# Altium integrated library Ferrite Chip.IntLib: 462 symbols (part 5 of 7)
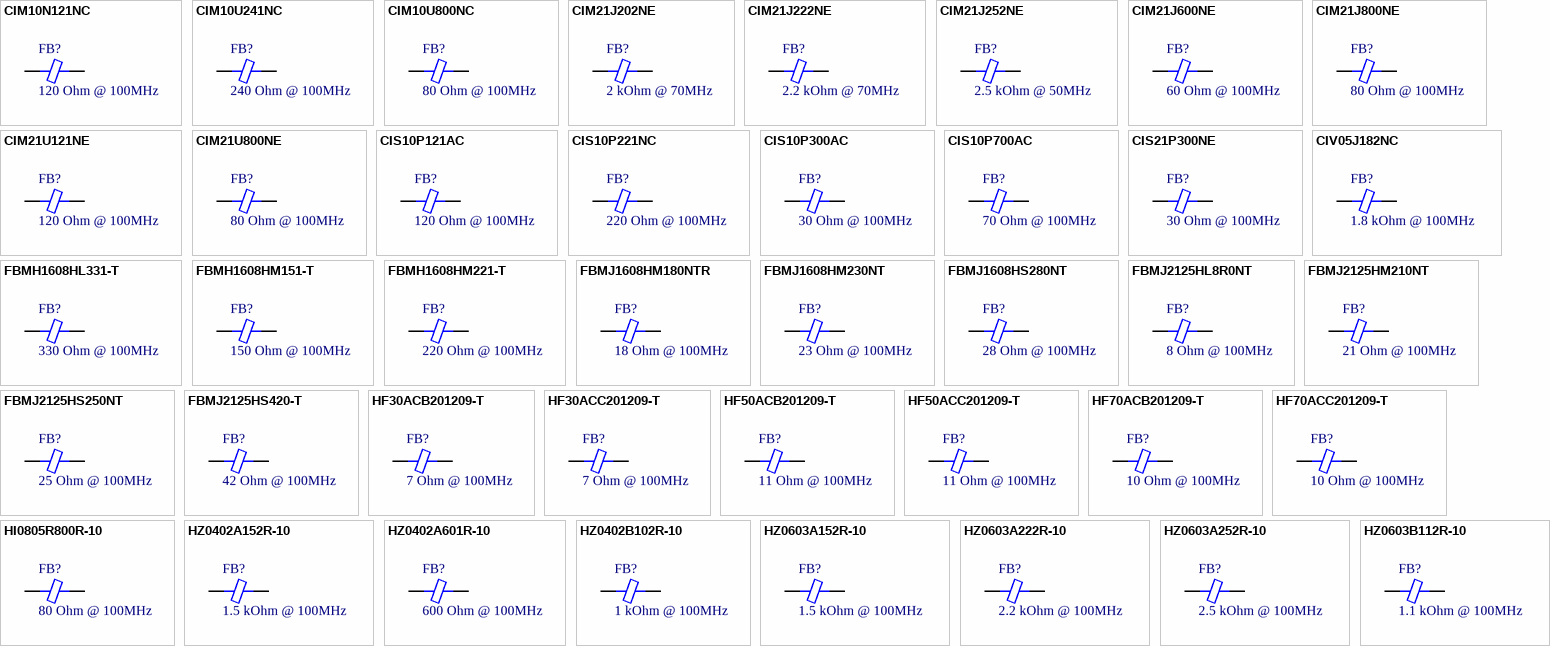
[diagram p15: symbols CIM10N121NC to HZ0603B112R-10]

## CIM10N121NC
designator FB?, comment 120 Ohm @ 100MHz
FERRITE CHIP 120 OHM 400MA 0603; Part Number: CIM10N121NC; Manufacturer: Samsung Electro-Mechanics America, Inc.; Type: Differential Mode - Single; DC Resistance: 450 mOhm Max; PartId: 6668; Value: 120 Ohm @ 100MHz; Supplier 1: Digi-Key; Supplier Part Number 1: 1276-6324-2-ND; ComponentLink1Description: Datasheet; ComponentLink1URL: http://www.samsungsem.com/kr/front/downloadcms.do?path=/kr/support/product-search/bead/__icsFiles/afieldfile/2014/11/13&fileName=S_CIM10F121NC.pdf; ComponentLink2Description: Digi-Key listing; ComponentLink2URL: http://digikey.com/product-detail/en/CIM10N121NC/1276-6324-2-ND/3973914; Price: 0.031; Device Package: 0603 (1608 Metric); Current Rating: 400mA
footprint FER 0603/1608
pins: 1, 2

## CIM10U241NC
designator FB?, comment 240 Ohm @ 100MHz
FERRITE CHIP 240 OHM 400MA 0603; Part Number: CIM10U241NC; Manufacturer: Samsung Electro-Mechanics America, Inc.; Type: Differential Mode - Single; DC Resistance: 250 mOhm Max; PartId: 6598; Value: 240 Ohm @ 100MHz; Supplier 1: Digi-Key; Supplier Part Number 1: 1276-6385-2-ND; ComponentLink1Description: Datasheet; ComponentLink1URL: http://www.samsungsem.com/kr/front/downloadcms.do?path=/kr/support/product-search/bead/__icsFiles/afieldfile/2014/11/13&fileName=S_CIM10F121NC.pdf; ComponentLink2Description: Digi-Key listing; ComponentLink2URL: http://digikey.com/product-detail/en/CIM10U241NC/1276-6385-2-ND/3973762; Price: 0.0248; Device Package: 0603 (1608 Metric); Current Rating: 400mA
footprint FER 0603/1608
pins: 1, 2

## CIM10U800NC
designator FB?, comment 80 Ohm @ 100MHz
FERRITE CHIP 80 OHM 600MA 0603; Part Number: CIM10U800NC; Manufacturer: Samsung Electro-Mechanics America, Inc.; Type: Differential Mode - Single; DC Resistance: 100 mOhm Max; PartId: 6584; Value: 80 Ohm @ 100MHz; Supplier 1: Digi-Key; Supplier Part Number 1: 1276-6386-2-ND; ComponentLink1Description: Datasheet; ComponentLink1URL: http://www.samsungsem.com/kr/front/downloadcms.do?path=/kr/support/product-search/bead/__icsFiles/afieldfile/2014/11/13&fileName=S_CIM10F121NC.pdf; ComponentLink2Description: Digi-Key listing; ComponentLink2URL: http://digikey.com/product-detail/en/CIM10U800NC/1276-6386-2-ND/3973761; Price: 0.0215; Device Package: 0603 (1608 Metric); Current Rating: 600mA
footprint FER 0603/1608
pins: 1, 2

## CIM21J202NE
designator FB?, comment 2 kOhm @ 70MHz
FERRITE CHIP 2000 OHM 500MA 0805; Part Number: CIM21J202NE; Manufacturer: Samsung Electro-Mechanics America, Inc.; Type: Differential Mode - Single; DC Resistance: 500 mOhm Max; PartId: 6754; Value: 2 kOhm @ 70MHz; Supplier 1: Digi-Key; Supplier Part Number 1: 1276-6330-2-ND; ComponentLink1Description: Datasheet; ComponentLink1URL: http://www.samsungsem.com/kr/front/downloadcms.do?path=/kr/support/product-search/bead/__icsFiles/afieldfile/2014/11/13&fileName=S_CIB21P110NE.pdf; ComponentLink2Description: Digi-Key listing; ComponentLink2URL: http://digikey.com/product-detail/en/CIM21J202NE/1276-6330-2-ND/3973930; Price: 0.013; Device Package: 0805 (2012 Metric); Current Rating: 500mA
footprint FER 0805/2012
pins: 1, 2

## CIM21J222NE
designator FB?, comment 2.2 kOhm @ 70MHz
FERRITE CHIP 2200 OHM 300MA 0805; Part Number: CIM21J222NE; Manufacturer: Samsung Electro-Mechanics America, Inc.; Type: Differential Mode - Single; DC Resistance: 700 mOhm Max; PartId: 6763; Value: 2.2 kOhm @ 70MHz; Supplier 1: Digi-Key; Supplier Part Number 1: 1276-6329-2-ND; ComponentLink1Description: Datasheet; ComponentLink1URL: http://www.samsungsem.com/kr/front/downloadcms.do?path=/kr/support/product-search/bead/__icsFiles/afieldfile/2014/11/13&fileName=S_CIB21P110NE.pdf; ComponentLink2Description: Digi-Key listing; ComponentLink2URL: http://digikey.com/product-detail/en/CIM21J222NE/1276-6329-2-ND/3973931; Price: 0.0168; Device Package: 0805 (2012 Metric); Current Rating: 300mA
footprint FER 0805/2012
pins: 1, 2

## CIM21J252NE
designator FB?, comment 2.5 kOhm @ 50MHz
FERRITE CHIP 2500 OHM 300MA 0805; Part Number: CIM21J252NE; Manufacturer: Samsung Electro-Mechanics America, Inc.; Type: Differential Mode - Single; DC Resistance: 700 mOhm Max; PartId: 6758; Value: 2.5 kOhm @ 50MHz; Supplier 1: Digi-Key; Supplier Part Number 1: 1276-6377-2-ND; ComponentLink1Description: Datasheet; ComponentLink1URL: http://www.samsungsem.com/kr/front/downloadcms.do?path=/kr/support/product-search/bead/__icsFiles/afieldfile/2014/11/13&fileName=S_CIB21P110NE.pdf; ComponentLink2Description: Digi-Key listing; ComponentLink2URL: http://digikey.com/product-detail/en/CIM21J252NE/1276-6377-2-ND/3973785; Price: 0.0158; Device Package: 0805 (2012 Metric); Current Rating: 300mA
footprint FER 0805/2012
pins: 1, 2

## CIM21J600NE
designator FB?, comment 60 Ohm @ 100MHz
FERRITE CHIP 60 OHM 900MA 0805; Part Number: CIM21J600NE; Manufacturer: Samsung Electro-Mechanics America, Inc.; Type: Differential Mode - Single; DC Resistance: 80 mOhm Max; PartId: 6768; Value: 60 Ohm @ 100MHz; Supplier 1: Digi-Key; Supplier Part Number 1: 1276-6339-2-ND; ComponentLink1Description: Datasheet; ComponentLink1URL: http://www.samsungsem.com/kr/front/downloadcms.do?path=/kr/support/product-search/bead/__icsFiles/afieldfile/2014/11/13&fileName=S_CIB21P110NE.pdf; ComponentLink2Description: Digi-Key listing; ComponentLink2URL: http://digikey.com/product-detail/en/CIM21J600NE/1276-6339-2-ND/3973925; Price: 0.0187; Device Package: 0805 (2012 Metric); Current Rating: 900mA
footprint FER 0805/2012
pins: 1, 2

## CIM21J800NE
designator FB?, comment 80 Ohm @ 100MHz
FERRITE CHIP 80 OHM 1000MA 0805; Part Number: CIM21J800NE; Manufacturer: Samsung Electro-Mechanics America, Inc.; Type: Differential Mode - Single; DC Resistance: 80 mOhm Max; Current Rating: 1A; PartId: 6761; Value: 80 Ohm @ 100MHz; Supplier 1: Digi-Key; Supplier Part Number 1: 1276-6338-2-ND; ComponentLink1Description: Datasheet; ComponentLink1URL: http://www.samsungsem.com/kr/front/downloadcms.do?path=/kr/support/product-search/bead/__icsFiles/afieldfile/2014/11/13&fileName=S_CIB21P110NE.pdf; ComponentLink2Description: Digi-Key listing; ComponentLink2URL: http://digikey.com/product-detail/en/CIM21J800NE/1276-6338-2-ND/3973926; Price: 0.0163; Device Package: 0805 (2012 Metric)
footprint FER 0805/2012
pins: 1, 2

## CIM21U121NE
designator FB?, comment 120 Ohm @ 100MHz
FERRITE CHIP 120 OHM 800MA 0805; Part Number: CIM21U121NE; Manufacturer: Samsung Electro-Mechanics America, Inc.; Type: Differential Mode - Single; DC Resistance: 100 mOhm Max; PartId: 6757; Value: 120 Ohm @ 100MHz; Supplier 1: Digi-Key; Supplier Part Number 1: CIM21U121NE-ND; ComponentLink1Description: Datasheet; ComponentLink1URL: http://www.samsungsem.com/kr/front/downloadcms.do?path=/kr/support/product-search/bead/__icsFiles/afieldfile/2014/11/13&fileName=S_CIB21P110NE.pdf; ComponentLink2Description: Digi-Key listing; ComponentLink2URL: http://digikey.com/product-detail/en/CIM21U121NE/CIM21U121NE-ND/3986610; Price: 0.013; Device Package: 0805 (2012 Metric); Current Rating: 800mA
footprint FER 0805/2012
pins: 1, 2

## CIM21U800NE
designator FB?, comment 80 Ohm @ 100MHz
FERRITE CHIP 80 OHM 900MA 0805; Part Number: CIM21U800NE; Manufacturer: Samsung Electro-Mechanics America, Inc.; Type: Differential Mode - Single; DC Resistance: 100 mOhm Max; PartId: 6760; Value: 80 Ohm @ 100MHz; Supplier 1: Digi-Key; Supplier Part Number 1: 1276-6341-2-ND; ComponentLink1Description: Datasheet; ComponentLink1URL: http://www.samsungsem.com/kr/front/downloadcms.do?path=/kr/support/product-search/bead/__icsFiles/afieldfile/2014/11/13&fileName=S_CIB21P110NE.pdf; ComponentLink2Description: Digi-Key listing; ComponentLink2URL: http://digikey.com/product-detail/en/CIM21U800NE/1276-6341-2-ND/3973923; Price: 0.0163; Device Package: 0805 (2012 Metric); Current Rating: 900mA
footprint FER 0805/2012
pins: 1, 2

## CIS10P121AC
designator FB?, comment 120 Ohm @ 100MHz
FERRITE CHIP 120 OHM 3000MA 0603; Part Number: CIS10P121AC; Manufacturer: Samsung Electro-Mechanics America, Inc.; Type: Differential Mode - Single; DC Resistance: 30 mOhm Max; Current Rating: 3A; PartId: 6666; Value: 120 Ohm @ 100MHz; Supplier 1: Digi-Key; Supplier Part Number 1: 1276-6351-2-ND; ComponentLink1Description: Datasheet; ComponentLink1URL: http://media.digikey.com/pdf/Data%20Sheets/Samsung%20PDFs/CIS10P.pdf; ComponentLink2Description: Digi-Key listing; ComponentLink2URL: http://digikey.com/product-detail/en/CIS10P121AC/1276-6351-2-ND/3973856; Price: 0.031; Device Package: 0603 (1608 Metric)
footprint FER 0603/1608
pins: 1, 2

## CIS10P221NC
designator FB?, comment 220 Ohm @ 100MHz
FERRITE CHIP 220 OHM 2500MA 0603; Part Number: CIS10P221NC; Manufacturer: Samsung Electro-Mechanics America, Inc.; Type: Differential Mode - Single; DC Resistance: 50 mOhm Max; Current Rating: 2.5A; PartId: 6665; Value: 220 Ohm @ 100MHz; Supplier 1: Digi-Key; Supplier Part Number 1: 1276-6350-2-ND; ComponentLink1Description: Datasheet; ComponentLink1URL: http://media.digikey.com/pdf/Data%20Sheets/Samsung%20PDFs/CIS10P.pdf; ComponentLink2Description: Digi-Key listing; ComponentLink2URL: http://digikey.com/product-detail/en/CIS10P221NC/1276-6350-2-ND/3973857; Price: 0.031; Device Package: 0603 (1608 Metric)
footprint FER 0603/1608
pins: 1, 2

## CIS10P300AC
designator FB?, comment 30 Ohm @ 100MHz
FERRITE CHIP 30 OHM 6000MA 0603; Part Number: CIS10P300AC; Manufacturer: Samsung Electro-Mechanics America, Inc.; Type: Differential Mode - Single; DC Resistance: 10 mOhm Max; Current Rating: 6A; PartId: 6574; Value: 30 Ohm @ 100MHz; Supplier 1: Digi-Key; Supplier Part Number 1: 1276-6353-2-ND; ComponentLink1Description: Datasheet; ComponentLink1URL: http://media.digikey.com/pdf/Data%20Sheets/Samsung%20PDFs/CIS10P.pdf; ComponentLink2Description: Digi-Key listing; ComponentLink2URL: http://digikey.com/product-detail/en/CIS10P300AC/1276-6353-2-ND/3973854; Price: 0.0104; Device Package: 0603 (1608 Metric)
footprint FER 0603/1608
pins: 1, 2

## CIS10P700AC
designator FB?, comment 70 Ohm @ 100MHz
FERRITE CHIP 70 OHM 4000MA 0603; Part Number: CIS10P700AC; Manufacturer: Samsung Electro-Mechanics America, Inc.; Type: Differential Mode - Single; DC Resistance: 20 mOhm Max; Current Rating: 4A; PartId: 6597; Value: 70 Ohm @ 100MHz; Supplier 1: Digi-Key; Supplier Part Number 1: 1276-6352-2-ND; ComponentLink1Description: Datasheet; ComponentLink1URL: http://media.digikey.com/pdf/Data%20Sheets/Samsung%20PDFs/CIS10P.pdf; ComponentLink2Description: Digi-Key listing; ComponentLink2URL: http://digikey.com/product-detail/en/CIS10P700AC/1276-6352-2-ND/3973855; Price: 0.0248; Device Package: 0603 (1608 Metric)
footprint FER 0603/1608
pins: 1, 2

## CIS21P300NE
designator FB?, comment 30 Ohm @ 100MHz
FERRITE CHIP 30 OHM 6000MA 0805; Part Number: CIS21P300NE; Manufacturer: Samsung Electro-Mechanics America, Inc.; Type: Differential Mode - Single; DC Resistance: 10 mOhm Max; Current Rating: 6A; PartId: 6771; Value: 30 Ohm @ 100MHz; Supplier 1: Digi-Key; Supplier Part Number 1: 1276-6370-2-ND; ComponentLink1Description: Datasheet; ComponentLink1URL: http://www.samsungsem.com/kr/front/downloadcms.do?path=/kr/support/product-search/bead/__icsFiles/afieldfile/2014/11/13&fileName=S_CIS21J121NE.pdf; ComponentLink2Description: Digi-Key listing; ComponentLink2URL: http://digikey.com/product-detail/en/CIS21P300NE/1276-6370-2-ND/3973787; Price: 0.0262; Device Package: 0805 (2012 Metric)
footprint FER 0805/2012
pins: 1, 2

## CIV05J182NC
designator FB?, comment 1.8 kOhm @ 100MHz
FERRITE CHIP 1800 OHM 200MA 0402; Part Number: CIV05J182NC; Manufacturer: Samsung Electro-Mechanics America, Inc.; Type: Differential Mode - Single; DC Resistance: 2.2 Ohm Max; PartId: 6451; Value: 1.8 kOhm @ 100MHz; Supplier 1: Digi-Key; Supplier Part Number 1: 1276-6389-2-ND; ComponentLink1Description: Datasheet; ComponentLink1URL: http://www.samsungsem.com/kr/front/downloadcms.do?path=/kr/support/product-search/bead/__icsFiles/afieldfile/2014/11/13&fileName=S_CIV05J102NC.pdf; ComponentLink2Description: Digi-Key listing; ComponentLink2URL: http://digikey.com/product-detail/en/CIV05J182NC/1276-6389-2-ND/3973889; Price: 0.0208; Device Package: 0402 (1005 Metric); Current Rating: 200mA
footprint FER 0402/1005
pins: 1, 2

## FBMH1608HL331-T
designator FB?, comment 330 Ohm @ 100MHz
FERRITE CHIP 330 OHM 0603; Part Number: FBMH1608HL331-T; Manufacturer: Taiyo Yuden; Type: Differential Mode - Single; DC Resistance: 210 mOhm Max; Current Rating: 600mA; PartId: 6726; Value: 330 Ohm @ 100MHz; Supplier 1: Digi-Key; Supplier Part Number 1: 587-1734-2-ND; ComponentLink1Description: Datasheet; ComponentLink1URL: http://ds.yuden.co.jp/TYCOMPAS/ut/detail.do?productNo=FBMH1608HL331-T&fileName=FBMH1608HL331-T_SS&mode=specSheetDownload; ComponentLink2Description: Digi-Key listing; ComponentLink2URL: http://digikey.com/product-detail/en/FBMH1608HL331-T/587-1734-2-ND/957784; Price: 0.0409; Device Package: 0603 (1608 Metric)
footprint FER 0603/1608
pins: 1, 2

## FBMH1608HM151-T
designator FB?, comment 150 Ohm @ 100MHz
FERRITE CHIP 150 OHM 0603; Part Number: FBMH1608HM151-T; Manufacturer: Taiyo Yuden; Type: Differential Mode - Single; DC Resistance: 50 mOhm Max; Current Rating: 2A; PartId: 6679; Value: 150 Ohm @ 100MHz; Supplier 1: Digi-Key; Supplier Part Number 1: 587-1740-2-ND; ComponentLink1Description: Datasheet; ComponentLink1URL: http://ds.yuden.co.jp/TYCOMPAS/ut/detail.do?productNo=FBMH1608HM151-T&fileName=FBMH1608HM151-T_SS&mode=specSheetDownload; ComponentLink2Description: Digi-Key listing; ComponentLink2URL: http://digikey.com/product-detail/en/FBMH1608HM151-T/587-1740-2-ND/957790; Price: 0.0321; Device Package: 0603 (1608 Metric)
footprint FER 0603/1608
pins: 1, 2

## FBMH1608HM221-T
designator FB?, comment 220 Ohm @ 100MHz
FERRITE CHIP 220 OHM 0603; Part Number: FBMH1608HM221-T; Manufacturer: Taiyo Yuden; Type: Differential Mode - Single; DC Resistance: 70 mOhm Max; Current Rating: 1.5A; PartId: 6678; Value: 220 Ohm @ 100MHz; Supplier 1: Digi-Key; Supplier Part Number 1: 587-1741-2-ND; ComponentLink1Description: Datasheet; ComponentLink1URL: http://ds.yuden.co.jp/TYCOMPAS/ut/detail.do?productNo=FBMH1608HM221-T&fileName=FBMH1608HM221-T_SS&mode=specSheetDownload; ComponentLink2Description: Digi-Key listing; ComponentLink2URL: http://digikey.com/product-detail/en/FBMH1608HM221-T/587-1741-2-ND/957791; Price: 0.0321; Device Package: 0603 (1608 Metric)
footprint FER 0603/1608
pins: 1, 2

## FBMJ1608HM180NTR
designator FB?, comment 18 Ohm @ 100MHz
FERRITE CHIP 18 OHM 0603; Part Number: FBMJ1608HM180NTR; Manufacturer: Taiyo Yuden; Type: Differential Mode - Single; DC Resistance: 4 mOhm Max; Current Rating: 7.5A; PartId: 6728; Value: 18 Ohm @ 100MHz; Supplier 1: Digi-Key; Supplier Part Number 1: 587-3251-2-ND; ComponentLink1Description: Datasheet; ComponentLink1URL: http://ds.yuden.co.jp/TYCOMPAS/ut/detail.do?productNo=FBMJ1608HM180NTR&fileName=FBMJ1608HM180NTR_SS&mode=specSheetDownload; ComponentLink2Description: Digi-Key listing; ComponentLink2URL: http://digikey.com/product-detail/en/FBMJ1608HM180NTR/587-3251-2-ND/3662188; Price: 0.0409; Device Package: 0603 (1608 Metric)
footprint FER 0603/1608
pins: 1, 2

## FBMJ1608HM230NT
designator FB?, comment 23 Ohm @ 100MHz
FERRITE CHIP 23 OHM 0603; Part Number: FBMJ1608HM230NT; Manufacturer: Taiyo Yuden; Type: Differential Mode - Single; DC Resistance: 7 mOhm Max; Current Rating: 4A; PartId: 6674; Value: 23 Ohm @ 100MHz; Supplier 1: Digi-Key; Supplier Part Number 1: 587-1762-2-ND; ComponentLink1Description: Datasheet; ComponentLink1URL: http://ds.yuden.co.jp/TYCOMPAS/ut/detail.do?productNo=FBMJ1608HM230NT&fileName=FBMJ1608HM230NT_SS&mode=specSheetDownload; ComponentLink2Description: Digi-Key listing; ComponentLink2URL: http://digikey.com/product-detail/en/FBMJ1608HM230NT/587-1762-2-ND/957797; Price: 0.0321; Device Package: 0603 (1608 Metric)
footprint FER 0603/1608
pins: 1, 2

## FBMJ1608HS280NT
designator FB?, comment 28 Ohm @ 100MHz
FERRITE CHIP 28 OHM 0603; Part Number: FBMJ1608HS280NT; Manufacturer: Taiyo Yuden; Type: Differential Mode - Single; DC Resistance: 7 mOhm Max; Current Rating: 4A; PartId: 6727; Value: 28 Ohm @ 100MHz; Supplier 1: Digi-Key; Supplier Part Number 1: 587-1763-2-ND; ComponentLink1Description: Datasheet; ComponentLink1URL: http://ds.yuden.co.jp/TYCOMPAS/ut/detail.do?productNo=FBMJ1608HS280NT&fileName=FBMJ1608HS280NT_SS&mode=specSheetDownload; ComponentLink2Description: Digi-Key listing; ComponentLink2URL: http://digikey.com/product-detail/en/FBMJ1608HS280NT/587-1763-2-ND/957798; Price: 0.0409; Device Package: 0603 (1608 Metric)
footprint FER 0603/1608
pins: 1, 2

## FBMJ2125HL8R0NT
designator FB?, comment 8 Ohm @ 100MHz
FERRITE CHIP 8 OHM 0805; Part Number: FBMJ2125HL8R0NT; Manufacturer: Taiyo Yuden; Type: Differential Mode - Single; DC Resistance: 10 mOhm Max; Current Rating: 2A; PartId: 6792; Value: 8 Ohm @ 100MHz; Supplier 1: Digi-Key; Supplier Part Number 1: 587-1764-2-ND; ComponentLink1Description: Datasheet; ComponentLink1URL: http://ds.yuden.co.jp/TYCOMPAS/ut/detail.do?productNo=FBMJ2125HL8R0NT&fileName=FBMJ2125HL8R0NT_SS&mode=specSheetDownload; ComponentLink2Description: Digi-Key listing; ComponentLink2URL: http://digikey.com/product-detail/en/FBMJ2125HL8R0NT/587-1764-2-ND/957830; Price: 0.0323; Device Package: 0805 (2012 Metric)
footprint FER 0805/2012
pins: 1, 2

## FBMJ2125HM210NT
designator FB?, comment 21 Ohm @ 100MHz
FERRITE CHIP 21 OHM 0805; Part Number: FBMJ2125HM210NT; Manufacturer: Taiyo Yuden; Type: Differential Mode - Single; DC Resistance: 4 mOhm Max; Current Rating: 6A; PartId: 6823; Value: 21 Ohm @ 100MHz; Supplier 1: Digi-Key; Supplier Part Number 1: 587-1765-2-ND; ComponentLink1Description: Datasheet; ComponentLink1URL: http://ds.yuden.co.jp/TYCOMPAS/ut/detail.do?productNo=FBMJ2125HM210NT&fileName=FBMJ2125HM210NT_SS&mode=specSheetDownload; ComponentLink2Description: Digi-Key listing; ComponentLink2URL: http://digikey.com/product-detail/en/FBMJ2125HM210NT/587-1765-2-ND/957831; Price: 0.0416; Device Package: 0805 (2012 Metric)
footprint FER 0805/2012
pins: 1, 2

## FBMJ2125HS250NT
designator FB?, comment 25 Ohm @ 100MHz
FERRITE CHIP 25 OHM 0805; Part Number: FBMJ2125HS250NT; Manufacturer: Taiyo Yuden; Type: Differential Mode - Single; DC Resistance: 4 mOhm Max; Current Rating: 6A; PartId: 6790; Value: 25 Ohm @ 100MHz; Supplier 1: Digi-Key; Supplier Part Number 1: 587-1767-2-ND; ComponentLink1Description: Datasheet; ComponentLink1URL: http://ds.yuden.co.jp/TYCOMPAS/ut/detail.do?productNo=FBMJ2125HS250NT&fileName=FBMJ2125HS250NT_SS&mode=specSheetDownload; ComponentLink2Description: Digi-Key listing; ComponentLink2URL: http://digikey.com/product-detail/en/FBMJ2125HS250NT/587-1767-2-ND/957833; Price: 0.0323; Device Package: 0805 (2012 Metric)
footprint FER 0805/2012
pins: 1, 2

## FBMJ2125HS420-T
designator FB?, comment 42 Ohm @ 100MHz
FERRITE CHIP 42 OHM 0805; Part Number: FBMJ2125HS420-T; Manufacturer: Taiyo Yuden; Type: Differential Mode - Single; DC Resistance: 8 mOhm Max; Current Rating: 4A; PartId: 6787; Value: 42 Ohm @ 100MHz; Supplier 1: Digi-Key; Supplier Part Number 1: 587-1768-2-ND; ComponentLink1Description: Datasheet; ComponentLink1URL: http://ds.yuden.co.jp/TYCOMPAS/ut/detail.do?productNo=FBMJ2125HS420-T&fileName=FBMJ2125HS420-T_SS&mode=specSheetDownload; ComponentLink2Description: Digi-Key listing; ComponentLink2URL: http://digikey.com/product-detail/en/FBMJ2125HS420-T/587-1768-2-ND/957834; Price: 0.0323; Device Package: 0805 (2012 Metric)
footprint FER 0805/2012
pins: 1, 2

## HF30ACB201209-T
designator FB?, comment 7 Ohm @ 100MHz
FERRITE CHIP 7 OHM 600MA 0805; Part Number: HF30ACB201209-T; Manufacturer: TDK Corporation; Type: Differential Mode - Single; DC Resistance: 100 mOhm Max; PartId: 6846; Value: 7 Ohm @ 100MHz; Supplier 1: Digi-Key; Supplier Part Number 1: 445-6160-2-ND; ComponentLink1Description: Datasheet; ComponentLink1URL: https://product.tdk.com/info/en/catalog/datasheets/beads_commercial_signal_hfxxacb2012_en.pdf; ComponentLink2Description: Digi-Key listing; ComponentLink2URL: http://digikey.com/product-detail/en/HF30ACB201209-T/445-6160-2-ND/2464920; Price: 0.104; Device Package: 0805 (2012 Metric); Current Rating: 600mA
footprint FER 0805/2012
pins: 1, 2

## HF30ACC201209-T
designator FB?, comment 7 Ohm @ 100MHz
FERRITE CHIP 7 OHM 1.5A 0805; Part Number: HF30ACC201209-T; Manufacturer: TDK Corporation; Type: Differential Mode - Single; DC Resistance: 30 mOhm Max; PartId: 6847; Value: 7 Ohm @ 100MHz; Supplier 1: Digi-Key; Supplier Part Number 1: 445-6164-2-ND; ComponentLink1Description: Datasheet; ComponentLink1URL: https://product.tdk.com/info/en/catalog/datasheets/beads_commercial_power_hfxxacc2012_en.pdf; ComponentLink2Description: Digi-Key listing; ComponentLink2URL: http://digikey.com/product-detail/en/HF30ACC201209-T/445-6164-2-ND/2464924; Price: 0.104; Device Package: 0805 (2012 Metric); Current Rating: 1.5A
footprint FER 0805/2012
pins: 1, 2

## HF50ACB201209-T
designator FB?, comment 11 Ohm @ 100MHz
FERRITE CHIP 11 OHM 600MA 0805; Part Number: HF50ACB201209-T; Manufacturer: TDK Corporation; Type: Differential Mode - Single; DC Resistance: 100 mOhm Max; PartId: 6845; Value: 11 Ohm @ 100MHz; Supplier 1: Digi-Key; Supplier Part Number 1: 445-6169-2-ND; ComponentLink1Description: Datasheet; ComponentLink1URL: https://product.tdk.com/info/en/catalog/datasheets/beads_commercial_signal_hfxxacb2012_en.pdf; ComponentLink2Description: Digi-Key listing; ComponentLink2URL: http://digikey.com/product-detail/en/HF50ACB201209-T/445-6169-2-ND/2464929; Price: 0.104; Device Package: 0805 (2012 Metric); Current Rating: 600mA
footprint FER 0805/2012
pins: 1, 2

## HF50ACC201209-T
designator FB?, comment 11 Ohm @ 100MHz
FERRITE CHIP 11 OHM 1.5A 0805; Part Number: HF50ACC201209-T; Manufacturer: TDK Corporation; Type: Differential Mode - Single; DC Resistance: 30 mOhm Max; PartId: 6848; Value: 11 Ohm @ 100MHz; Supplier 1: Digi-Key; Supplier Part Number 1: 445-6173-2-ND; ComponentLink1Description: Datasheet; ComponentLink1URL: https://product.tdk.com/info/en/catalog/datasheets/beads_commercial_power_hfxxacc2012_en.pdf; ComponentLink2Description: Digi-Key listing; ComponentLink2URL: http://digikey.com/product-detail/en/HF50ACC201209-T/445-6173-2-ND/2464933; Price: 0.104; Device Package: 0805 (2012 Metric); Current Rating: 1.5A
footprint FER 0805/2012
pins: 1, 2

## HF70ACB201209-T
designator FB?, comment 10 Ohm @ 100MHz
FERRITE CHIP 10 OHM 600MA 0805; Part Number: HF70ACB201209-T; Manufacturer: TDK Corporation; Type: Differential Mode - Single; DC Resistance: 100 mOhm Max; PartId: 6843; Value: 10 Ohm @ 100MHz; Supplier 1: Digi-Key; Supplier Part Number 1: 445-6180-2-ND; ComponentLink1Description: Datasheet; ComponentLink1URL: https://product.tdk.com/info/en/catalog/datasheets/beads_commercial_signal_hfxxacb2012_en.pdf; ComponentLink2Description: Digi-Key listing; ComponentLink2URL: http://digikey.com/product-detail/en/HF70ACB201209-T/445-6180-2-ND/2464940; Price: 0.104; Device Package: 0805 (2012 Metric); Current Rating: 600mA
footprint FER 0805/2012
pins: 1, 2

## HF70ACC201209-T
designator FB?, comment 10 Ohm @ 100MHz
FERRITE CHIP 10 OHM 1.5A 0805; Part Number: HF70ACC201209-T; Manufacturer: TDK Corporation; Type: Differential Mode - Single; DC Resistance: 30 mOhm Max; PartId: 6844; Value: 10 Ohm @ 100MHz; Supplier 1: Digi-Key; Supplier Part Number 1: 445-6183-2-ND; ComponentLink1Description: Datasheet; ComponentLink1URL: https://product.tdk.com/info/en/catalog/datasheets/beads_commercial_power_hfxxacc2012_en.pdf; ComponentLink2Description: Digi-Key listing; ComponentLink2URL: http://digikey.com/product-detail/en/HF70ACC201209-T/445-6183-2-ND/2464943; Price: 0.104; Device Package: 0805 (2012 Metric); Current Rating: 1.5A
footprint FER 0805/2012
pins: 1, 2

## HI0805R800R-10
designator FB?, comment 80 Ohm @ 100MHz
FERRITE CHIP 80 OHM 0805; Part Number: HI0805R800R-10; Manufacturer: Laird-Signal Integrity Products; Type: Differential Mode - Single; DC Resistance: 10 mOhm Max; Current Rating: 5A; PartId: 6783; Value: 80 Ohm @ 100MHz; Supplier 1: Digi-Key; Supplier Part Number 1: 240-2395-2-ND; ComponentLink1Description: Datasheet; ComponentLink1URL: http://media.digikey.com/pdf/Data%20Sheets/Steward%20PDFs/FerriteEMI_ChipBeads_br.pdf; ComponentLink2Description: Digi-Key listing; ComponentLink2URL: http://digikey.com/product-detail/en/HI0805R800R-10/240-2395-2-ND/806634; Price: 0.0298; Device Package: 0805 (2012 Metric)
footprint FER 0805/2012
pins: 1, 2

## HZ0402A152R-10
designator FB?, comment 1.5 kOhm @ 100MHz
FERRITE CHIP 50MA 0402; Part Number: HZ0402A152R-10; Manufacturer: Laird-Signal Integrity Products; Type: Differential Mode - Single; DC Resistance: 2 Ohm Max; PartId: 6524; Value: 1.5 kOhm @ 100MHz; Supplier 1: Digi-Key; Supplier Part Number 1: 240-2588-2-ND; ComponentLink1Description: Datasheet; ComponentLink1URL: http://media.digikey.com/pdf/Data%20Sheets/Steward%20PDFs/FerriteEMI_ChipBeads_br.pdf; ComponentLink2Description: Digi-Key listing; ComponentLink2URL: http://digikey.com/product-detail/en/HZ0402A152R-10/240-2588-2-ND/1836436; Price: 0.0321; Device Package: 0402 (1005 Metric); Current Rating: 50mA
footprint FER 0402/1005
pins: 1, 2

## HZ0402A601R-10
designator FB?, comment 600 Ohm @ 100MHz
FERRITE CHIP 100MA 600 OHM 0402; Part Number: HZ0402A601R-10; Manufacturer: Laird-Signal Integrity Products; Type: Differential Mode - Single; DC Resistance: 1 Ohm Max; PartId: 6461; Value: 600 Ohm @ 100MHz; Supplier 1: Digi-Key; Supplier Part Number 1: 240-2364-2-ND; ComponentLink1Description: Datasheet; ComponentLink1URL: http://media.digikey.com/pdf/Data%20Sheets/Steward%20PDFs/FerriteEMI_ChipBeads_br.pdf; ComponentLink2Description: Digi-Key listing; ComponentLink2URL: http://digikey.com/product-detail/en/HZ0402A601R-10/240-2364-2-ND/806604; Price: 0.025; Device Package: 0402 (1005 Metric); Current Rating: 100mA
footprint FER 0402/1005
pins: 1, 2

## HZ0402B102R-10
designator FB?, comment 1 kOhm @ 100MHz
FERRITE CHIP 1000OHMS 200MA 0402; Part Number: HZ0402B102R-10; Manufacturer: Laird-Signal Integrity Products; Type: Differential Mode - Single; DC Resistance: 1 Ohm Max; PartId: 6498; Value: 1 kOhm @ 100MHz; Supplier 1: Digi-Key; Supplier Part Number 1: 240-2555-2-ND; ComponentLink1Description: Datasheet; ComponentLink1URL: http://media.digikey.com/pdf/Data%20Sheets/Steward%20PDFs/FerriteEMI_ChipBeads_br.pdf; ComponentLink2Description: Digi-Key listing; ComponentLink2URL: http://digikey.com/product-detail/en/HZ0402B102R-10/240-2555-2-ND/1236411; Price: 0.0291; Device Package: 0402 (1005 Metric); Current Rating: 200mA
footprint FER 0402/1005
pins: 1, 2

## HZ0603A152R-10
designator FB?, comment 1.5 kOhm @ 100MHz
FERRITE CHIP 1500OHMS 100MA 0603; Part Number: HZ0603A152R-10; Manufacturer: Laird-Signal Integrity Products; Type: Differential Mode - Single; DC Resistance: 900 mOhm Max; PartId: 6606; Value: 1.5 kOhm @ 100MHz; Supplier 1: Digi-Key; Supplier Part Number 1: 240-2559-2-ND; ComponentLink1Description: Datasheet; ComponentLink1URL: http://media.digikey.com/pdf/Data%20Sheets/Steward%20PDFs/FerriteEMI_ChipBeads_br.pdf; ComponentLink2Description: Digi-Key listing; ComponentLink2URL: http://digikey.com/product-detail/en/HZ0603A152R-10/240-2559-2-ND/1236415; Price: 0.0275; Device Package: 0603 (1608 Metric); Current Rating: 100mA
footprint FER 0603/1608
pins: 1, 2

## HZ0603A222R-10
designator FB?, comment 2.2 kOhm @ 100MHz
FERRITE CHIP SIGNAL 2200 OHM 0603; Part Number: HZ0603A222R-10; Manufacturer: Laird-Signal Integrity Products; Type: Differential Mode - Single; DC Resistance: 1.5 Ohm Max; Current Rating: 100mA; PartId: 6601; Value: 2.2 kOhm @ 100MHz; Supplier 1: Digi-Key; Supplier Part Number 1: 240-2377-2-ND; ComponentLink1Description: Datasheet; ComponentLink1URL: http://media.digikey.com/pdf/Data%20Sheets/Steward%20PDFs/FerriteEMI_ChipBeads_br.pdf; ComponentLink2Description: Digi-Key listing; ComponentLink2URL: http://digikey.com/product-detail/en/HZ0603A222R-10/240-2377-2-ND/806616; Price: 0.0275; Device Package: 0603 (1608 Metric)
footprint FER 0603/1608
pins: 1, 2

## HZ0603A252R-10
designator FB?, comment 2.5 kOhm @ 100MHz
FERRITE CHIP 2500 OHMS 50MA 0603; Part Number: HZ0603A252R-10; Manufacturer: Laird-Signal Integrity Products; Type: Differential Mode - Single; DC Resistance: 1.5 Ohm Max; PartId: 6644; Value: 2.5 kOhm @ 100MHz; Supplier 1: Digi-Key; Supplier Part Number 1: 240-2561-2-ND; ComponentLink1Description: Datasheet; ComponentLink1URL: http://media.digikey.com/pdf/Data%20Sheets/Steward%20PDFs/FerriteEMI_ChipBeads_br.pdf; ComponentLink2Description: Digi-Key listing; ComponentLink2URL: http://digikey.com/product-detail/en/HZ0603A252R-10/240-2561-2-ND/1236417; Price: 0.0298; Device Package: 0603 (1608 Metric); Current Rating: 50mA
footprint FER 0603/1608
pins: 1, 2

## HZ0603B112R-10
designator FB?, comment 1.1 kOhm @ 100MHz
FERRITE CHIP SIGNAL 1100 OHM 0603; Part Number: HZ0603B112R-10; Manufacturer: Laird-Signal Integrity Products; Type: Differential Mode - Single; DC Resistance: 800 mOhm Max; Current Rating: 200mA; PartId: 6631; Value: 1.1 kOhm @ 100MHz; Supplier 1: Digi-Key; Supplier Part Number 1: 240-2379-2-ND; ComponentLink1Description: Datasheet; ComponentLink1URL: http://media.digikey.com/pdf/Data%20Sheets/Steward%20PDFs/FerriteEMI_ChipBeads_br.pdf; ComponentLink2Description: Digi-Key listing; ComponentLink2URL: http://digikey.com/product-detail/en/HZ0603B112R-10/240-2379-2-ND/806618; Price: 0.0298; Device Package: 0603 (1608 Metric)
footprint FER 0603/1608
pins: 1, 2

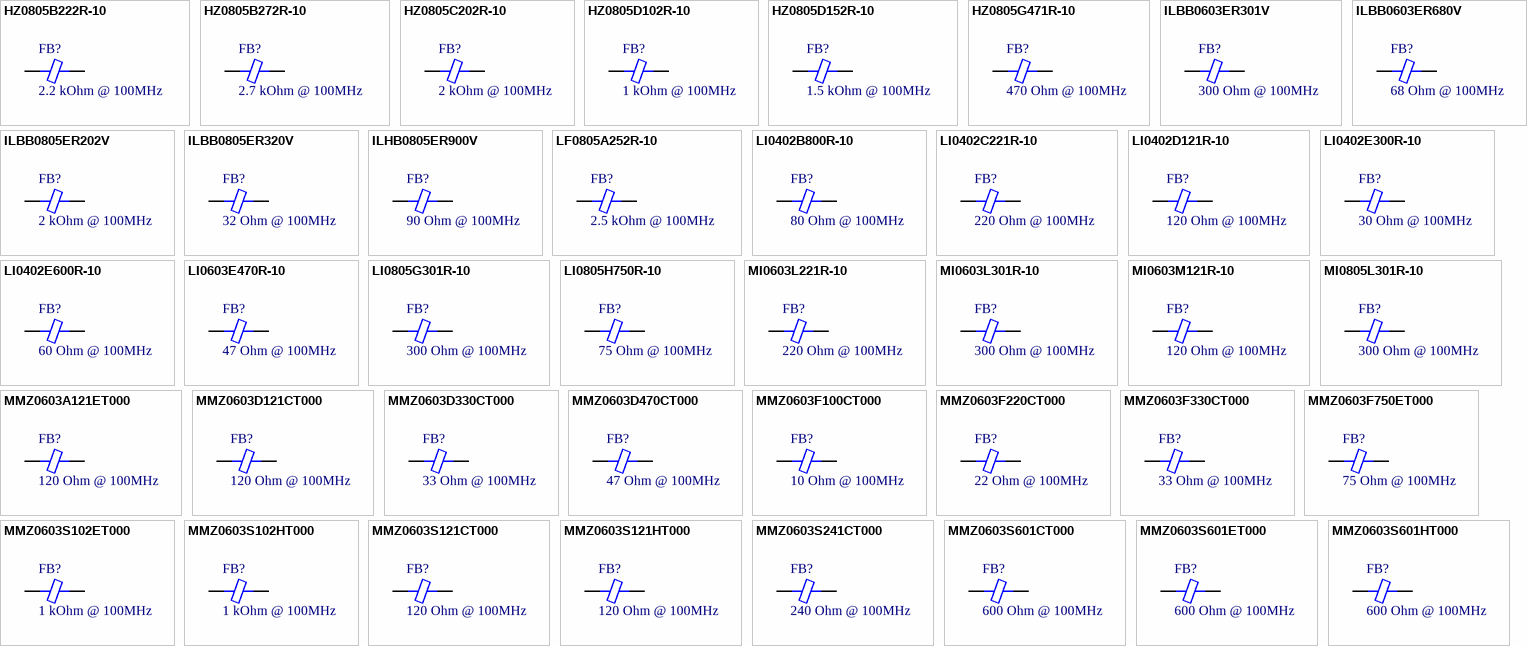
[diagram p8: symbols HZ0805B222R-10 to MMZ0603S601HT000]

## HZ0805B222R-10
designator FB?, comment 2.2 kOhm @ 100MHz
FERRITE CHIP 2200OHMS 200MA 0805; Part Number: HZ0805B222R-10; Manufacturer: Laird-Signal Integrity Products; Type: Differential Mode - Single; DC Resistance: 800 mOhm Max; PartId: 6788; Value: 2.2 kOhm @ 100MHz; Supplier 1: Digi-Key; Supplier Part Number 1: 240-2562-2-ND; ComponentLink1Description: Datasheet; ComponentLink1URL: http://media.digikey.com/pdf/Data%20Sheets/Steward%20PDFs/FerriteEMI_ChipBeads_br.pdf; ComponentLink2Description: Digi-Key listing; ComponentLink2URL: http://digikey.com/product-detail/en/HZ0805B222R-10/240-2562-2-ND/1236418; Price: 0.0323; Device Package: 0805 (2012 Metric); Current Rating: 200mA
footprint FER 0805/2012
pins: 1, 2

## HZ0805B272R-10
designator FB?, comment 2.7 kOhm @ 100MHz
FERRITE CHIP 0805 2700 OHM 0805; Part Number: HZ0805B272R-10; Manufacturer: Laird-Signal Integrity Products; Type: Differential Mode - Single; DC Resistance: 800 mOhm Max; Current Rating: 200mA; PartId: 6829; Value: 2.7 kOhm @ 100MHz; Supplier 1: Digi-Key; Supplier Part Number 1: 240-2504-2-ND; ComponentLink1Description: Datasheet; ComponentLink1URL: http://media.digikey.com/pdf/Data%20Sheets/Steward%20PDFs/FerriteEMI_ChipBeads_br.pdf; ComponentLink2Description: Digi-Key listing; ComponentLink2URL: http://digikey.com/product-detail/en/HZ0805B272R-10/240-2504-2-ND/935985; Price: 0.0495; Device Package: 0805 (2012 Metric)
footprint FER 0805/2012
pins: 1, 2

## HZ0805C202R-10
designator FB?, comment 2 kOhm @ 100MHz
FERRITE CHIP SIGNAL 2000 OHM 0805; Part Number: HZ0805C202R-10; Manufacturer: Laird-Signal Integrity Products; Type: Differential Mode - Single; DC Resistance: 500 mOhm Max; Current Rating: 300mA; PartId: 6791; Value: 2 kOhm @ 100MHz; Supplier 1: Digi-Key; Supplier Part Number 1: 240-2396-2-ND; ComponentLink1Description: Datasheet; ComponentLink1URL: http://media.digikey.com/pdf/Data%20Sheets/Steward%20PDFs/FerriteEMI_ChipBeads_br.pdf; ComponentLink2Description: Digi-Key listing; ComponentLink2URL: http://digikey.com/product-detail/en/HZ0805C202R-10/240-2396-2-ND/806635; Price: 0.0323; Device Package: 0805 (2012 Metric)
footprint FER 0805/2012
pins: 1, 2

## HZ0805D102R-10
designator FB?, comment 1 kOhm @ 100MHz
FERRITE CHIP SIGNAL 1000 OHM 0805; Part Number: HZ0805D102R-10; Manufacturer: Laird-Signal Integrity Products; Type: Differential Mode - Single; DC Resistance: 300 mOhm Max; Current Rating: 400mA; PartId: 6772; Value: 1 kOhm @ 100MHz; Supplier 1: Digi-Key; Supplier Part Number 1: 240-2397-2-ND; ComponentLink1Description: Datasheet; ComponentLink1URL: http://media.digikey.com/pdf/Data%20Sheets/Steward%20PDFs/FerriteEMI_ChipBeads_br.pdf; ComponentLink2Description: Digi-Key listing; ComponentLink2URL: http://digikey.com/product-detail/en/HZ0805D102R-10/240-2397-2-ND/806636; Price: 0.0275; Device Package: 0805 (2012 Metric)
footprint FER 0805/2012
pins: 1, 2

## HZ0805D152R-10
designator FB?, comment 1.5 kOhm @ 100MHz
FERRITE CHIP SIGNAL 1500 OHM 0805; Part Number: HZ0805D152R-10; Manufacturer: Laird-Signal Integrity Products; Type: Differential Mode - Single; DC Resistance: 400 mOhm Max; Current Rating: 400mA; PartId: 6789; Value: 1.5 kOhm @ 100MHz; Supplier 1: Digi-Key; Supplier Part Number 1: 240-2398-2-ND; ComponentLink1Description: Datasheet; ComponentLink1URL: http://media.digikey.com/pdf/Data%20Sheets/Steward%20PDFs/FerriteEMI_ChipBeads_br.pdf; ComponentLink2Description: Digi-Key listing; ComponentLink2URL: http://digikey.com/product-detail/en/HZ0805D152R-10/240-2398-2-ND/806637; Price: 0.0323; Device Package: 0805 (2012 Metric)
footprint FER 0805/2012
pins: 1, 2

## HZ0805G471R-10
designator FB?, comment 470 Ohm @ 100MHz
FERRITE CHIP SIGNAL 470 OHM 0805; Part Number: HZ0805G471R-10; Manufacturer: Laird-Signal Integrity Products; Type: Differential Mode - Single; DC Resistance: 200 mOhm Max; Current Rating: 700mA; PartId: 6773; Value: 470 Ohm @ 100MHz; Supplier 1: Digi-Key; Supplier Part Number 1: 240-2400-2-ND; ComponentLink1Description: Datasheet; ComponentLink1URL: http://media.digikey.com/pdf/Data%20Sheets/Steward%20PDFs/FerriteEMI_ChipBeads_br.pdf; ComponentLink2Description: Digi-Key listing; ComponentLink2URL: http://digikey.com/product-detail/en/HZ0805G471R-10/240-2400-2-ND/806639; Price: 0.0275; Device Package: 0805 (2012 Metric)
footprint FER 0805/2012
pins: 1, 2

## ILBB0603ER301V
designator FB?, comment 300 Ohm @ 100MHz
FERRITE CHIP 300 OHM 0603; Part Number: ILBB0603ER301V; Manufacturer: Vishay Dale; Type: Differential Mode - Single; DC Resistance: 350 mOhm Max; Current Rating: 150mA; PartId: 6620; Value: 300 Ohm @ 100MHz; Supplier 1: Digi-Key; Supplier Part Number 1: 541-2291-2-ND; ComponentLink1Description: Datasheet; ComponentLink1URL: http://www.vishay.com/docs/34024/ilbb0603.pdf; ComponentLink2Description: Digi-Key listing; ComponentLink2URL: http://digikey.com/product-detail/en/ILBB0603ER301V/541-2291-2-ND/2574895; Price: 0.0275; Device Package: 0603 (1608 Metric)
footprint FER 0603/1608
pins: 1, 2

## ILBB0603ER680V
designator FB?, comment 68 Ohm @ 100MHz
FERRITE CHIP 68 OHM 0603; Part Number: ILBB0603ER680V; Manufacturer: Vishay Dale; Type: Differential Mode - Single; DC Resistance: 100 mOhm Max; Current Rating: 200mA; PartId: 6622; Value: 68 Ohm @ 100MHz; Supplier 1: Digi-Key; Supplier Part Number 1: 541-2605-2-ND; ComponentLink1Description: Datasheet; ComponentLink1URL: http://www.vishay.com/docs/34024/ilbb0603.pdf; ComponentLink2Description: Digi-Key listing; ComponentLink2URL: http://digikey.com/product-detail/en/ILBB0603ER680V/541-2605-2-ND/2574900; Price: 0.0275; Device Package: 0603 (1608 Metric)
footprint FER 0603/1608
pins: 1, 2

## ILBB0805ER202V
designator FB?, comment 2 kOhm @ 100MHz
FERRITE CHIP 2000 OHM 0805; Part Number: ILBB0805ER202V; Manufacturer: Vishay Dale; Type: Differential Mode - Single; DC Resistance: 500 mOhm Max; Current Rating: 80mA; PartId: 6828; Value: 2 kOhm @ 100MHz; Supplier 1: Digi-Key; Supplier Part Number 1: 541-2295-2-ND; ComponentLink1Description: Datasheet; ComponentLink1URL: http://www.vishay.com/docs/34025/ilbb0805.pdf; ComponentLink2Description: Digi-Key listing; ComponentLink2URL: http://digikey.com/product-detail/en/ILBB0805ER202V/541-2295-2-ND/2574910; Price: 0.0458; Device Package: 0805 (2012 Metric)
footprint FER 0805/2012
pins: 1, 2

## ILBB0805ER320V
designator FB?, comment 32 Ohm @ 100MHz
FERRITE CHIP 32 OHM 0805; Part Number: ILBB0805ER320V; Manufacturer: Vishay Dale; Type: Differential Mode - Single; DC Resistance: 60 mOhm Max; Current Rating: 600mA; PartId: 6793; Value: 32 Ohm @ 100MHz; Supplier 1: Digi-Key; Supplier Part Number 1: 541-2296-2-ND; ComponentLink1Description: Datasheet; ComponentLink1URL: http://www.vishay.com/docs/34025/ilbb0805.pdf; ComponentLink2Description: Digi-Key listing; ComponentLink2URL: http://digikey.com/product-detail/en/ILBB0805ER320V/541-2296-2-ND/2574915; Price: 0.0323; Device Package: 0805 (2012 Metric)
footprint FER 0805/2012
pins: 1, 2

## ILHB0805ER900V
designator FB?, comment 90 Ohm @ 100MHz
FERRITE CHIP 90 OHM 0805; Part Number: ILHB0805ER900V; Manufacturer: Vishay Dale; Type: Differential Mode - Single; DC Resistance: 25 mOhm Max; Current Rating: 5A; PartId: 6816; Value: 90 Ohm @ 100MHz; Supplier 1: Digi-Key; Supplier Part Number 1: 541-2303-2-ND; ComponentLink1Description: Datasheet; ComponentLink1URL: http://www.vishay.com/docs/34102/ilhb.pdf; ComponentLink2Description: Digi-Key listing; ComponentLink2URL: http://digikey.com/product-detail/en/ILHB0805ER900V/541-2303-2-ND/2575022; Price: 0.0387; Device Package: 0805 (2012 Metric)
footprint FER 0805/2012
pins: 1, 2

## LF0805A252R-10
designator FB?, comment 2.5 kOhm @ 100MHz
FERRITE CHIP 2500 OHM 100MA 0805; Part Number: LF0805A252R-10; Manufacturer: Laird-Signal Integrity Products; Type: Differential Mode - Single; DC Resistance: 1.25 Ohm Max; PartId: 6824; Value: 2.5 kOhm @ 100MHz; Supplier 1: Digi-Key; Supplier Part Number 1: 240-2563-2-ND; ComponentLink1Description: Datasheet; ComponentLink1URL: http://media.digikey.com/pdf/Data%20Sheets/Steward%20PDFs/FerriteEMI_ChipBeads_br.pdf; ComponentLink2Description: Digi-Key listing; ComponentLink2URL: http://digikey.com/product-detail/en/LF0805A252R-10/240-2563-2-ND/1236419; Price: 0.0437; Device Package: 0805 (2012 Metric); Current Rating: 100mA
footprint FER 0805/2012
pins: 1, 2

## LI0402B800R-10
designator FB?, comment 80 Ohm @ 100MHz
FERRITE CHIP 80 OHMS 200MA 0402; Part Number: LI0402B800R-10; Manufacturer: Laird-Signal Integrity Products; Type: Differential Mode - Single; DC Resistance: 800 mOhm Max; PartId: 6493; Value: 80 Ohm @ 100MHz; Supplier 1: Digi-Key; Supplier Part Number 1: 240-2553-2-ND; ComponentLink1Description: Datasheet; ComponentLink1URL: http://media.digikey.com/pdf/Data%20Sheets/Steward%20PDFs/FerriteEMI_ChipBeads_br.pdf; ComponentLink2Description: Digi-Key listing; ComponentLink2URL: http://digikey.com/product-detail/en/LI0402B800R-10/240-2553-2-ND/1236409; Price: 0.027; Device Package: 0402 (1005 Metric); Current Rating: 200mA
footprint FER 0402/1005
pins: 1, 2

## LI0402C221R-10
designator FB?, comment 220 Ohm @ 100MHz
FERRITE CHIP 220 OHMS 300MA 0402; Part Number: LI0402C221R-10; Manufacturer: Laird-Signal Integrity Products; Type: Differential Mode - Single; DC Resistance: 350 mOhm Max; PartId: 6492; Value: 220 Ohm @ 100MHz; Supplier 1: Digi-Key; Supplier Part Number 1: 240-2554-2-ND; ComponentLink1Description: Datasheet; ComponentLink1URL: http://media.digikey.com/pdf/Data%20Sheets/Steward%20PDFs/FerriteEMI_ChipBeads_br.pdf; ComponentLink2Description: Digi-Key listing; ComponentLink2URL: http://digikey.com/product-detail/en/LI0402C221R-10/240-2554-2-ND/1236410; Price: 0.027; Device Package: 0402 (1005 Metric); Current Rating: 300mA
footprint FER 0402/1005
pins: 1, 2

## LI0402D121R-10
designator FB?, comment 120 Ohm @ 100MHz
FERRITE CHIP .4A 120 OHM 0402; Part Number: LI0402D121R-10; Manufacturer: Laird-Signal Integrity Products; Type: Differential Mode - Single; DC Resistance: 400 mOhm Max; Current Rating: 400mA; PartId: 6468; Value: 120 Ohm @ 100MHz; Supplier 1: Digi-Key; Supplier Part Number 1: 240-2361-2-ND; ComponentLink1Description: Datasheet; ComponentLink1URL: http://media.digikey.com/pdf/Data%20Sheets/Steward%20PDFs/FerriteEMI_ChipBeads_br.pdf; ComponentLink2Description: Digi-Key listing; ComponentLink2URL: http://digikey.com/product-detail/en/LI0402D121R-10/240-2361-2-ND/806601; Price: 0.025; Device Package: 0402 (1005 Metric)
footprint FER 0402/1005
pins: 1, 2

## LI0402E300R-10
designator FB?, comment 30 Ohm @ 100MHz
FERRITE CHIP SIGNAL 30 OHM 0402; Part Number: LI0402E300R-10; Manufacturer: Laird-Signal Integrity Products; Type: Differential Mode - Single; DC Resistance: 300 mOhm Max; Current Rating: 500mA; PartId: 6491; Value: 30 Ohm @ 100MHz; Supplier 1: Digi-Key; Supplier Part Number 1: 240-2362-2-ND; ComponentLink1Description: Datasheet; ComponentLink1URL: http://media.digikey.com/pdf/Data%20Sheets/Steward%20PDFs/FerriteEMI_ChipBeads_br.pdf; ComponentLink2Description: Digi-Key listing; ComponentLink2URL: http://digikey.com/product-detail/en/LI0402E300R-10/240-2362-2-ND/806602; Price: 0.027; Device Package: 0402 (1005 Metric)
footprint FER 0402/1005
pins: 1, 2

## LI0402E600R-10
designator FB?, comment 60 Ohm @ 100MHz
FERRITE CHIP .5A 60 OHM 0402; Part Number: LI0402E600R-10; Manufacturer: Laird-Signal Integrity Products; Type: Differential Mode - Single; DC Resistance: 300 mOhm Max; Current Rating: 500mA; PartId: 6490; Value: 60 Ohm @ 100MHz; Supplier 1: Digi-Key; Supplier Part Number 1: 240-2363-2-ND; ComponentLink1Description: Datasheet; ComponentLink1URL: http://media.digikey.com/pdf/Data%20Sheets/Steward%20PDFs/FerriteEMI_ChipBeads_br.pdf; ComponentLink2Description: Digi-Key listing; ComponentLink2URL: http://digikey.com/product-detail/en/LI0402E600R-10/240-2363-2-ND/806603; Price: 0.027; Device Package: 0402 (1005 Metric)
footprint FER 0402/1005
pins: 1, 2

## LI0603E470R-10
designator FB?, comment 47 Ohm @ 100MHz
FERRITE CHIP 47 OHMS 500MA 0603; Part Number: LI0603E470R-10; Manufacturer: Laird-Signal Integrity Products; Type: Differential Mode - Single; DC Resistance: 100 mOhm Max; PartId: 6585; Value: 47 Ohm @ 100MHz; Supplier 1: Digi-Key; Supplier Part Number 1: 240-2557-2-ND; ComponentLink1Description: Datasheet; ComponentLink1URL: http://media.digikey.com/pdf/Data%20Sheets/Steward%20PDFs/FerriteEMI_ChipBeads_br.pdf; ComponentLink2Description: Digi-Key listing; ComponentLink2URL: http://digikey.com/product-detail/en/LI0603E470R-10/240-2557-2-ND/1236413; Price: 0.023; Device Package: 0603 (1608 Metric); Current Rating: 500mA
footprint FER 0603/1608
pins: 1, 2

## LI0805G301R-10
designator FB?, comment 300 Ohm @ 100MHz
FERRITE CHIP SIGNAL 300 OHM 0805; Part Number: LI0805G301R-10; Manufacturer: Laird-Signal Integrity Products; Type: Differential Mode - Single; DC Resistance: 200 mOhm Max; Current Rating: 700mA; PartId: 6769; Value: 300 Ohm @ 100MHz; Supplier 1: Digi-Key; Supplier Part Number 1: 240-2382-2-ND; ComponentLink1Description: Datasheet; ComponentLink1URL: http://media.digikey.com/pdf/Data%20Sheets/Steward%20PDFs/FerriteEMI_ChipBeads_br.pdf; ComponentLink2Description: Digi-Key listing; ComponentLink2URL: http://digikey.com/product-detail/en/LI0805G301R-10/240-2382-2-ND/806126; Price: 0.0253; Device Package: 0805 (2012 Metric)
footprint FER 0805/2012
pins: 1, 2

## LI0805H750R-10
designator FB?, comment 75 Ohm @ 100MHz
FERRITE CHIP SIGNAL 75 OHM 0805; Part Number: LI0805H750R-10; Manufacturer: Laird-Signal Integrity Products; Type: Differential Mode - Single; DC Resistance: 150 mOhm Max; Current Rating: 800mA; PartId: 6770; Value: 75 Ohm @ 100MHz; Supplier 1: Digi-Key; Supplier Part Number 1: 240-2385-2-ND; ComponentLink1Description: Datasheet; ComponentLink1URL: http://media.digikey.com/pdf/Data%20Sheets/Steward%20PDFs/FerriteEMI_ChipBeads_br.pdf; ComponentLink2Description: Digi-Key listing; ComponentLink2URL: http://digikey.com/product-detail/en/LI0805H750R-10/240-2385-2-ND/806623; Price: 0.0253; Device Package: 0805 (2012 Metric)
footprint FER 0805/2012
pins: 1, 2

## MI0603L221R-10
designator FB?, comment 220 Ohm @ 100MHz
FERRITE CHIP 220 OHMS 2.0A 0603; Part Number: MI0603L221R-10; Manufacturer: Laird-Signal Integrity Products; Type: Differential Mode - Single; DC Resistance: 50 mOhm Max; Current Rating: 2A; PartId: 6676; Value: 220 Ohm @ 100MHz; Supplier 1: Digi-Key; Supplier Part Number 1: 240-2558-2-ND; ComponentLink1Description: Datasheet; ComponentLink1URL: http://media.digikey.com/pdf/Data%20Sheets/Steward%20PDFs/FerriteEMI_ChipBeads_br.pdf; ComponentLink2Description: Digi-Key listing; ComponentLink2URL: http://digikey.com/product-detail/en/MI0603L221R-10/240-2558-2-ND/1236414; Price: 0.0321; Device Package: 0603 (1608 Metric)
footprint FER 0603/1608
pins: 1, 2

## MI0603L301R-10
designator FB?, comment 300 Ohm @ 100MHz
FERRITE CHIP 2A 300 OHM 0603; Part Number: MI0603L301R-10; Manufacturer: Laird-Signal Integrity Products; Type: Differential Mode - Single; DC Resistance: 100 mOhm Max; PartId: 6675; Value: 300 Ohm @ 100MHz; Supplier 1: Digi-Key; Supplier Part Number 1: 240-2374-2-ND; ComponentLink1Description: Datasheet; ComponentLink1URL: http://media.digikey.com/pdf/Data%20Sheets/Steward%20PDFs/FerriteEMI_ChipBeads_br.pdf; ComponentLink2Description: Digi-Key listing; ComponentLink2URL: http://digikey.com/product-detail/en/MI0603L301R-10/240-2374-2-ND/806613; Price: 0.0321; Device Package: 0603 (1608 Metric); Current Rating: 2A
footprint FER 0603/1608
pins: 1, 2

## MI0603M121R-10
designator FB?, comment 120 Ohm @ 100MHz
FERRITE CHIP 2.5A 120 OHM 0603; Part Number: MI0603M121R-10; Manufacturer: Laird-Signal Integrity Products; Type: Differential Mode - Single; DC Resistance: 50 mOhm Max; PartId: 6677; Value: 120 Ohm @ 100MHz; Supplier 1: Digi-Key; Supplier Part Number 1: 240-2375-2-ND; ComponentLink1Description: Datasheet; ComponentLink1URL: http://media.digikey.com/pdf/Data%20Sheets/Steward%20PDFs/FerriteEMI_ChipBeads_br.pdf; ComponentLink2Description: Digi-Key listing; ComponentLink2URL: http://digikey.com/product-detail/en/MI0603M121R-10/240-2375-2-ND/806614; Price: 0.0321; Device Package: 0603 (1608 Metric); Current Rating: 2.5A
footprint FER 0603/1608
pins: 1, 2

## MI0805L301R-10
designator FB?, comment 300 Ohm @ 100MHz
FERRITE CHIP 300 OHM 0805; Part Number: MI0805L301R-10; Manufacturer: Laird-Signal Integrity Products; Type: Differential Mode - Single; DC Resistance: 60 mOhm Max; Current Rating: 2A; PartId: 6795; Value: 300 Ohm @ 100MHz; Supplier 1: Digi-Key; Supplier Part Number 1: 240-2391-2-ND; ComponentLink1Description: Datasheet; ComponentLink1URL: http://media.digikey.com/pdf/Data%20Sheets/Steward%20PDFs/FerriteEMI_ChipBeads_br.pdf; ComponentLink2Description: Digi-Key listing; ComponentLink2URL: http://digikey.com/product-detail/en/MI0805L301R-10/240-2391-2-ND/806630; Price: 0.0344; Device Package: 0805 (2012 Metric)
footprint FER 0805/2012
pins: 1, 2

## MMZ0603A121ET000
designator FB?, comment 120 Ohm @ 100MHz
FERRITE BEAD 120 OHM 0201 1LN; Part Number: MMZ0603A121ET000; Manufacturer: TDK Corporation; DC Resistance: 440 mOhm; Current Rating: 250mA; PartId: 20403; Value: 120 Ohm @ 100MHz; Supplier 1: Digi-Key; Supplier Part Number 1: 445-172345-2-ND; ComponentLink1Description: Datasheet; ComponentLink1URL: https://product.tdk.com/info/en/catalog/datasheets/beads_commercial_signal_mmz0603-e_en.pdf; ComponentLink2Description: Digi-Key Listing; ComponentLink2URL: https://www.digikey.com/product-detail/en/tdk-corporation/MMZ0603A121ET000/445-172345-2-ND/4916895; Price: 0.0802; Device Package: 0201 (0603 Metric)
footprint FER 0201/0603
pins: 1, 2

## MMZ0603D121CT000
designator FB?, comment 120 Ohm @ 100MHz
FERRITE BEAD 120 OHM 0201 1LN; Part Number: MMZ0603D121CT000; Manufacturer: TDK Corporation; DC Resistance: 1.4 Ohm; Current Rating: 100mA; PartId: 20401; Value: 120 Ohm @ 100MHz; Supplier 1: Digi-Key; Supplier Part Number 1: 445-15752-2-ND; ComponentLink1Description: Datasheet; ComponentLink1URL: https://product.tdk.com/info/en/catalog/datasheets/beads_commercial_signal_mmz0603_en.pdf; ComponentLink2Description: Digi-Key Listing; ComponentLink2URL: https://www.digikey.com/product-detail/en/tdk-corporation/MMZ0603D121CT000/445-15752-2-ND/4327894; Price: 0.0352; Device Package: 0201 (0603 Metric)
footprint FER 0201/0603
pins: 1, 2

## MMZ0603D330CT000
designator FB?, comment 33 Ohm @ 100MHz
FERRITE BEAD 33 OHM 0201 1LN; Part Number: MMZ0603D330CT000; Manufacturer: TDK Corporation; DC Resistance: 850 mOhm; Current Rating: 200mA; PartId: 20364; Value: 33 Ohm @ 100MHz; Supplier 1: Digi-Key; Supplier Part Number 1: 445-2140-2-ND; ComponentLink1Description: Datasheet; ComponentLink1URL: https://product.tdk.com/info/en/catalog/datasheets/beads_commercial_signal_mmz0603_en.pdf; ComponentLink2Description: Digi-Key Listing; ComponentLink2URL: https://www.digikey.com/product-detail/en/tdk-corporation/MMZ0603D330CT000/445-2140-2-ND/765042; Price: 0.0282; Device Package: 0201 (0603 Metric)
footprint FER 0201/0603
pins: 1, 2

## MMZ0603D470CT000
designator FB?, comment 47 Ohm @ 100MHz
FERRITE BEAD 47 OHM 0201 1LN; Part Number: MMZ0603D470CT000; Manufacturer: TDK Corporation; DC Resistance: 700 mOhm; Current Rating: 200mA; PartId: 20394; Value: 47 Ohm @ 100MHz; Supplier 1: Digi-Key; Supplier Part Number 1: 445-15753-2-ND; ComponentLink1Description: Datasheet; ComponentLink1URL: https://product.tdk.com/info/en/catalog/datasheets/beads_commercial_signal_mmz0603_en.pdf; ComponentLink2Description: Digi-Key Listing; ComponentLink2URL: https://www.digikey.com/product-detail/en/tdk-corporation/MMZ0603D470CT000/445-15753-2-ND/4327895; Price: 0.0352; Device Package: 0201 (0603 Metric)
footprint FER 0201/0603
pins: 1, 2